# Altium schematic symbol library pengyulib.SchLib: 39 symbols
Pins are listed as number, name and electrical type; pins without a type are passive.

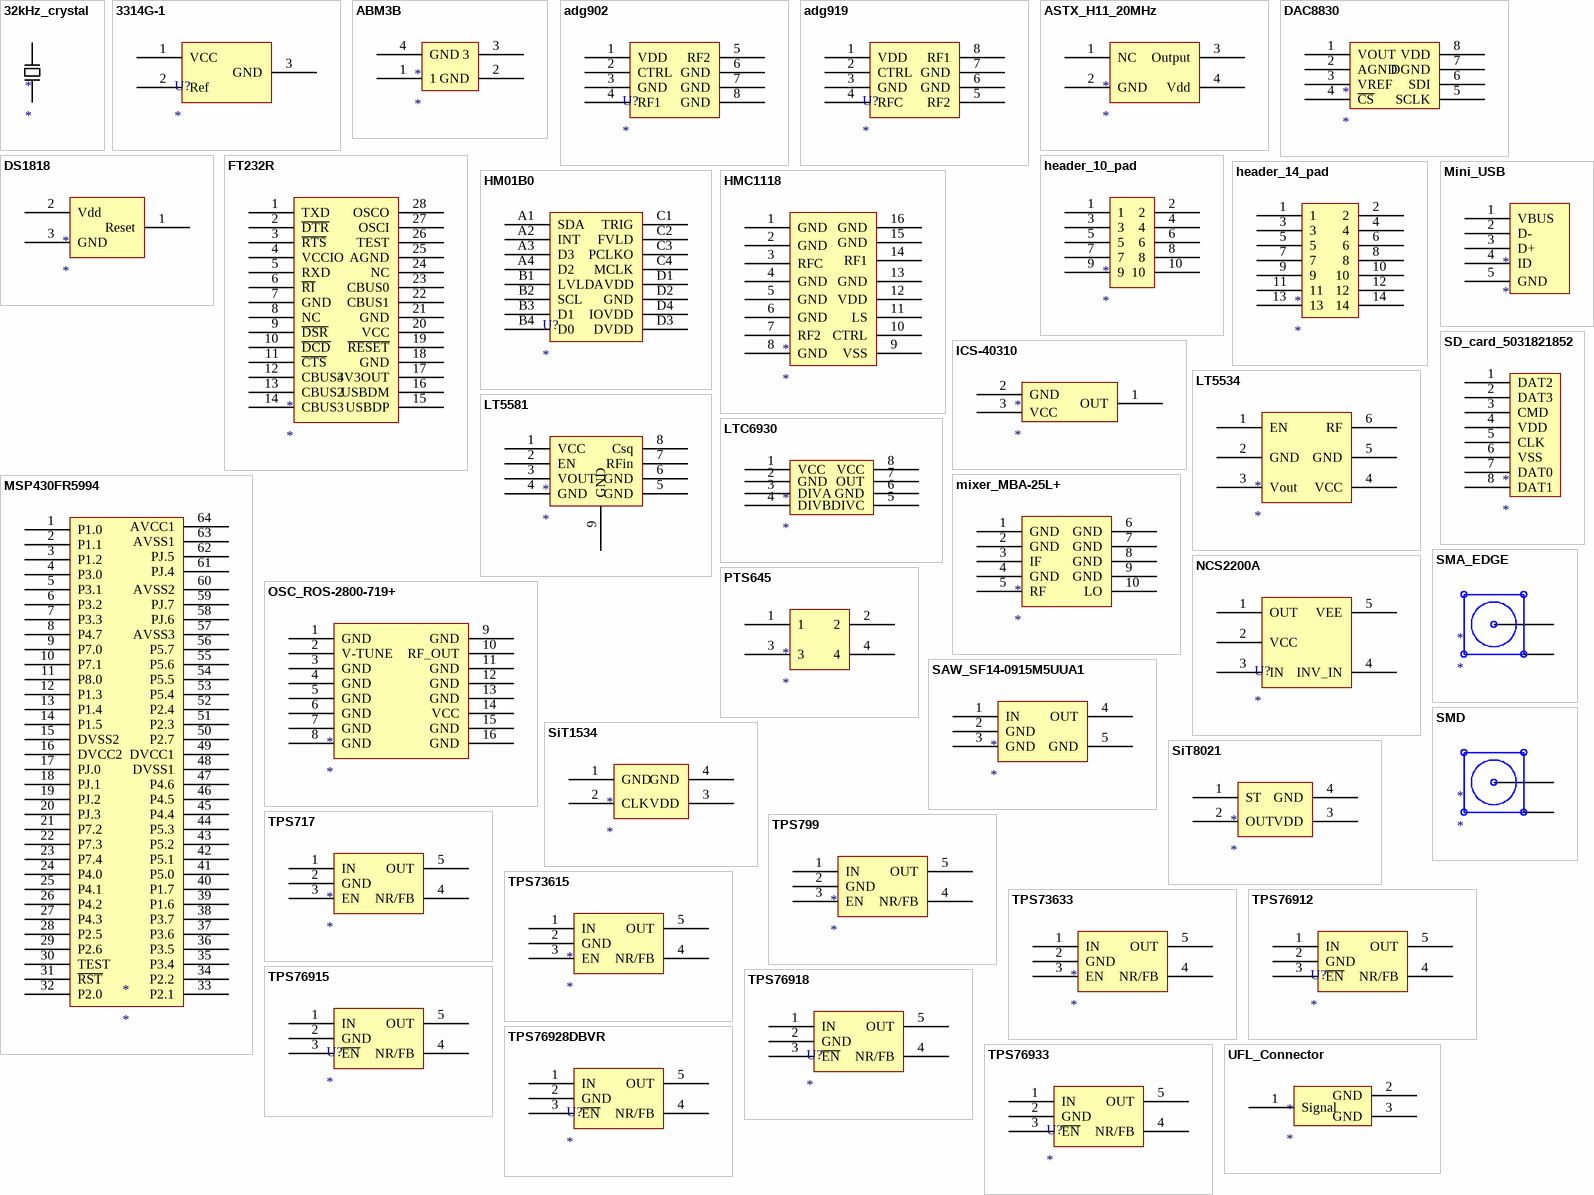
[diagram p0: symbols 32kHz_crystal to UFL_Connector]

## 32kHz_crystal
designator *
footprint 32kHz_crystal
pins: 1 (power) "Output", 2 (power) "Output"

## 3314G-1
designator U?
footprint 3314G-1
pins: 1 VCC, 2 Ref, 3 GND

## ABM3B
designator *
footprint ABM3B
pins: 1, 2 GND, 3, 4 GND

## adg902
designator U?
footprint ADG902
pins: 1 VDD, 2 CTRL, 3 GND, 4 RF1, 5 RF2, 6 GND, 7 GND, 8 GND

## adg919
designator U?
footprint ADG919
pins: 1 VDD, 2 CTRL, 3 GND, 4 RFC, 5 RF2, 6 GND, 7 GND, 8 RF1

## ASTX_H11_20MHz
designator *
footprint ASTX_H11
pins: 1 NC, 2 GND, 3 Output, 4 Vdd

## DAC8830
designator *
footprint DAC8830
pins: 1 VOUT, 2 AGND, 3 VREF, 4 ~{CS}, 5 SCLK, 6 SDI, 7 DGND, 8 VDD

## DS1818
designator *
pins: 1 Reset, 2 Vdd, 3 GND

## FT232R
designator *
footprint FT232R
pins: 1 TXD, 2 ~{DTR}, 3 ~{RTS}, 4 VCCIO, 5 RXD, 6 ~{RI}, 7 GND, 8 NC, 9 ~{DSR}, 10 ~{DCD}, 11 ~{CTS}, 12 CBUS4, 13 CBUS2, 14 CBUS3, 15 USBDP, 16 USBDM, 17 3V3OUT, 18 GND, 19 ~{RESET}, 20 VCC, 21 GND, 22 CBUS1, 23 CBUS0, 24 NC, 25 AGND, 26 TEST, 27 OSCI, 28 OSCO

## header_10_pad
designator *
footprint header_10_pad
pins: 1, 2, 3, 4, 5, 6, 7, 8, 9, 10

## header_14_pad
designator *
footprint header_14_pad
pins: 1, 2, 3, 4, 5, 6, 7, 8, 9, 10, 11, 12, 13, 14

## HM01B0
designator U?
footprint HM01B0
pins: A1 SDA, A2 INT, A3 D3, A4 D2, B1 LVLD, B2 SCL, B3 D1, B4 D0, C1 TRIG, C2 FVLD, C3 PCLKO, C4 MCLK, D1 AVDD, D2 GND, D3 DVDD, D4 IOVDD

## HMC1118
designator *
footprint HMC1118
pins: 1 GND, 2 GND, 3 RFC, 4 GND, 5 GND, 6 GND, 7 RF2, 8 GND, 9 VSS, 10 CTRL, 11 LS, 12 VDD, 13 GND, 14 RF1, 15 GND, 16 GND

## ICS-40310
designator *
footprint ICS-40310
pins: 1 OUT, 2 GND, 3 VCC

## LT5534
designator *
footprint LT5534 (SOT23, 6-Leads, Body 2.00x2.55mm, Pitch 0.65mm, IPC Medium Density)
pins: 1 EN, 2 GND, 3 Vout, 4 VCC, 5 GND, 6 RF

## LT5581
designator *
footprint LT5581
footprint LT5581
pins: 1 VCC, 2 EN, 3 VOUT, 4 GND, 5 GND, 6 GND, 7 RFin, 8 Csq, 9 GND

## LTC6930
designator *
footprint LTC6930
pins: 1 VCC, 2 GND, 3 DIVA, 4 DIVB, 5 DIVC, 6 GND, 7 OUT, 8 VCC

## Mini_USB
designator *
footprint Mini_USB
pins: 1 VBUS, 2 D-, 3 D+, 4 ID, 5 GND

## mixer_MBA-25L+
designator *
footprint Mixer_MBA-25L+
pins: 1 GND, 2 GND, 3 IF, 4 GND, 5 RF, 6 GND, 7 GND, 8 GND, 9 GND, 10 LO

## MSP430FR5994
designator *
footprint MSP430FR5994
pins: 1 P1.0, 2 P1.1, 3 P1.2, 4 P3.0, 5 P3.1, 6 P3.2, 7 P3.3, 8 P4.7, 9 P7.0, 10 P7.1, 11 P8.0, 12 P1.3, 13 P1.4, 14 P1.5, 15 DVSS2, 16 DVCC2, 17 PJ.0, 18 PJ.1, 19 PJ.2, 20 PJ.3, 21 P7.2, 22 P7.3, 23 P7.4, 24 P4.0, 25 P4.1, 26 P4.2, 27 P4.3, 28 P2.5, 29 P2.6, 30 TEST, 31 ~{RST}, 32 P2.0, 33 P2.1, 34 P2.2, 35 P3.4, 36 P3.5, 37 P3.6, 38 P3.7, 39 P1.6, 40 P1.7, 41 P5.0, 42 P5.1, 43 P5.2, 44 P5.3, 45 P4.4, 46 P4.5, 47 P4.6, 48 DVSS1, 49 DVCC1, 50 P2.7, 51 P2.3, 52 P2.4, 53 P5.4, 54 P5.5, 55 P5.6, 56 P5.7, 57 AVSS3, 58 PJ.6, 59 PJ.7, 60 AVSS2, 61 PJ.4, 62 PJ.5, 63 AVSS1, 64 AVCC1

## NCS2200A
designator U?
footprint NCS2200A
pins: 1 OUT, 2 VCC, 3 IN, 4 INV_IN, 5 VEE

## OSC_ROS-2800-719+
designator *
footprint OSC_ROS-2800-719+
pins: 1 GND, 2 V-TUNE, 3 GND, 4 GND, 5 GND, 6 GND, 7 GND, 8 GND, 9 GND, 10 RF_OUT, 11 GND, 12 GND, 13 GND, 14 VCC, 15 GND, 16 GND

## PTS645
designator *
footprint PTS645
pins: 1, 2, 3, 4

## SAW_SF14-0915M5UUA1
designator *
footprint SAW_SF14-0915M5UUA1
pins: 1 IN, 2 GND, 3 GND, 4 OUT, 5 GND

## SD_card_5031821852
designator *
footprint SD_card_5031821852
pins: 1 DAT2, 2 DAT3, 3 CMD, 4 VDD, 5 CLK, 6 VSS, 7 DAT0, 8 DAT1

## SiT1534
designator *
footprint SiT1534
pins: 1 GND, 2 CLK, 3 VDD, 4 GND

## SiT8021
designator *
footprint SiT8021
pins: 1 ST, 2 OUT, 3 VDD, 4 GND

## SMA_EDGE
designator *
footprint SMA_EDGE
pins: 1, 2

## SMD
designator *
footprint SMD
pins: 1, 2

## TPS717
designator *
footprint TPS717
pins: 1 IN, 2 GND, 3 EN, 4 NR/FB, 5 OUT

## TPS799
designator *
footprint TPS799
pins: 1 IN, 2 GND, 3 EN, 4 NR/FB, 5 OUT

## TPS73615
designator *
TPS73615
footprint TPS73633
pins: 1 IN, 2 GND, 3 EN, 4 NR/FB, 5 OUT

## TPS73633
designator *
TPS73633
footprint TPS73633
pins: 1 IN, 2 GND, 3 EN, 4 NR/FB, 5 OUT

## TPS76912
designator U?
TPS73633
footprint TPS73633
pins: 1 IN, 2 GND, 3 ~{EN}, 4 NR/FB, 5 OUT

## TPS76915
designator U?
TPS73633
footprint TPS73633
pins: 1 IN, 2 GND, 3 ~{EN}, 4 NR/FB, 5 OUT

## TPS76918
designator U?
TPS76918
footprint TPS73633
pins: 1 IN, 2 GND, 3 ~{EN}, 4 NR/FB, 5 OUT

## TPS76928DBVR
designator U?
TPS73633
footprint TPS73633
pins: 1 IN, 2 GND, 3 ~{EN}, 4 NR/FB, 5 OUT

## TPS76933
designator U?
TPS73633
footprint TPS73633
pins: 1 IN, 2 GND, 3 ~{EN}, 4 NR/FB, 5 OUT

## UFL_Connector
designator *
footprint UFL_connector
pins: 1 Signal, 2 GND, 3 GND